# EAGLE library part 24C65T/SM (library Microchip_By_element14_Batch_1)
64K I2C Smart Serial EEPROM
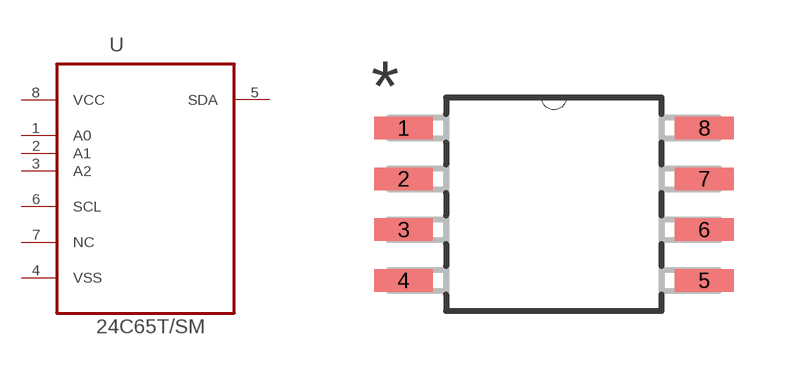
[diagram p25: symbol with the pads of SOIC127P795X203-8N; footprint SOIC127P795X203-8N]

Designator prefix -

## 24C65T/SM (MPN: 24C65T/SM; OC_FARNELL: 9757848; OC_NEWARK: 98K8309; PACKAGE: SOIC-8; SUPPLIER: MICROCHIP)  [SOIC127P795X203-8N]
1  A0  in
2  A1  in
3  A2  in
4  VSS  pas
5  SDA
6  SCL  in
7  NC  nc
8  VCC  pwr

## Footprint SOIC127P795X203-8N (pad centres in mm)
smd 1.473 x 0.559: 1 -3.759,1.905; 2 -3.759,0.635; 3 -3.759,-0.635; 4 -3.759,-1.905; 5 3.759,-1.905; 6 3.759,-0.635; 7 3.759,0.635; 8 3.759,1.905